# Altium schematic symbol library port.SchLib: 29 symbols
Pins are listed as number, name and electrical type; pins without a type are passive.

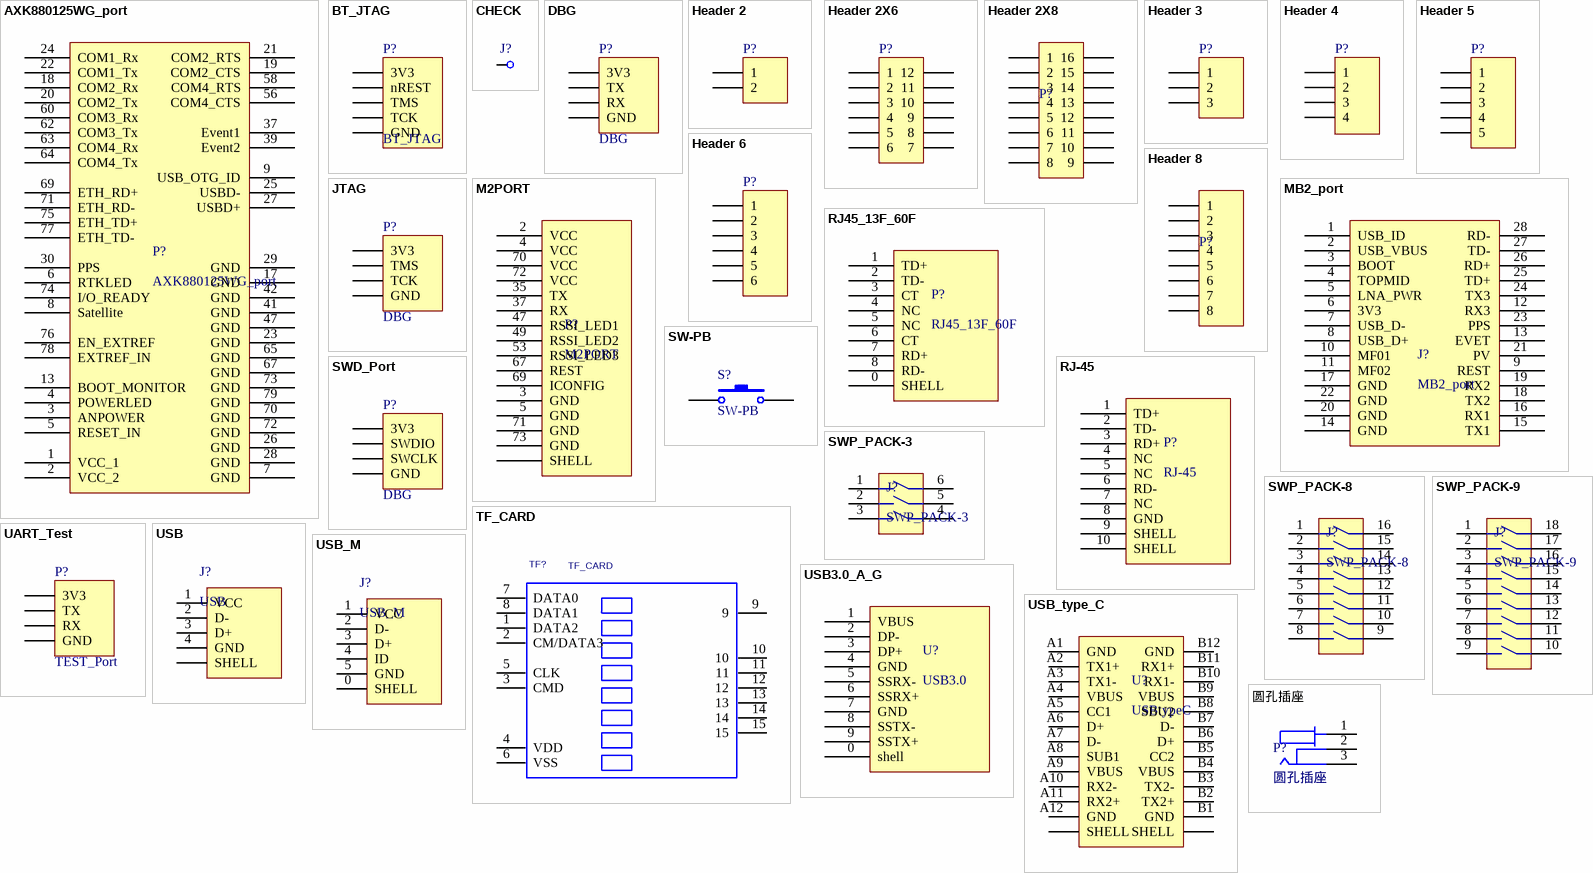
[diagram p0: symbols AXK880125WG_port to 圆孔插座]

## AXK880125WG_port
designator P?
AXK880125WG_接口
pins: 1 VCC_1, 2 VCC_2, 3 ANPOWER, 4 POWERLED, 5 RESET_IN, 6 RTKLED, 7 GND, 8 Satellite, 9 USB_OTG_ID, 13 BOOT_MONITOR, 17 GND, 18 COM2_Rx, 19 COM2_CTS, 20 COM2_Tx, 21 COM2_RTS, 22 COM1_Tx, 23 GND, 24 COM1_Rx, 25 USBD-, 26 GND, 27 USBD+, 28 GND, 29 GND, 30 PPS, 37 Event1, 39 Event2, 41 GND, 42 GND, 47 GND, 56 COM4_CTS, 58 COM4_RTS, 60 COM3_Rx, 62 COM3_Tx, 63 COM4_Rx, 64 COM4_Tx, 65 GND, 67 GND, 69 ETH_RD+, 70 GND, 71 ETH_RD-, 72 GND, 73 GND, 74 I/O_READY, 75 ETH_TD+, 76 EN_EXTREF, 77 ETH_TD-, 78 EXTREF_IN, 79 GND

## BT_JTAG
designator P?
Header, 5-Pin; LatestRevisionDate: 17-Jul-2002; LatestRevisionNote: Re-released for DXP Platform.; Publisher: Altium Limited
footprint header 5
pins: 1 3V3, 2 nREST, 3 TMS, 4 TCK, 5 GND

## CHECK
designator J?  (value not drawn)
测试点
footprint CHECK-B (Connector; Plug)
pins: 1

## DBG
designator P?
Header, 4-Pin; LatestRevisionDate: 17-Jul-2002; LatestRevisionNote: Re-released for DXP Platform.; Publisher: Altium Limited
footprint HDR1X4 (Connector; Header; 4 Position)
pins: 1 3V3, 2 TX, 3 RX, 4 GND

## Header 2
designator P?  (value not drawn)
Header, 2-Pin; LatestRevisionDate: 17-Jul-2002; LatestRevisionNote: Re-released for DXP Platform.; Publisher: Altium Limited
signal-integrity model Connector
footprint HDR1X2 (Connector; Header; 4 Position)
pins: 1, 2

## Header 2X6
designator P?  (value not drawn)
Header, 2X6-Pin; LatestRevisionDate: 17-Jul-2002; LatestRevisionNote: Re-released for DXP Platform.; Publisher: Altium Limited
footprint HDR2x6 (排针单排6针 双列)
pins: 1, 2, 3, 4, 5, 6, 7, 8, 9, 10, 11, 12

## Header 2X8
designator P?  (value not drawn)
Header, 2X8-Pin; LatestRevisionDate: 17-Jul-2002; LatestRevisionNote: Re-released for DXP Platform.; Publisher: Altium Limited
footprint HDR2x8 (排针单排8针 双列)
pins: 1, 2, 3, 4, 5, 6, 7, 8, 9, 10, 11, 12, 13, 14, 15, 16

## Header 3
designator P?  (value not drawn)
Header, 3-Pin; LatestRevisionDate: 17-Jul-2002; LatestRevisionNote: Re-released for DXP Platform.; Publisher: Altium Limited
signal-integrity model Connector
footprint GH1.25-3P
footprint PCB5.08_3P (Connector; Header; 3 Position)
footprint HDR1X3 (Connector; Header; 3 Position)
pins: 1, 2, 3

## Header 4
designator P?  (value not drawn)
Header, 4-Pin; LatestRevisionDate: 17-Jul-2002; LatestRevisionNote: Re-released for DXP Platform.; Publisher: Altium Limited
footprint HDR1X4 (Connector; Header; 4 Position)
pins: 1, 2, 3, 4

## Header 5
designator P?  (value not drawn)
Header, 5-Pin; LatestRevisionDate: 17-Jul-2002; LatestRevisionNote: Re-released for DXP Platform.; Publisher: Altium Limited
footprint HDR1X5
footprint HDR1x5_SMD
pins: 1, 2, 3, 4, 5

## Header 6
designator P?  (value not drawn)
Header, 6-Pin; LatestRevisionDate: 17-Jul-2002; LatestRevisionNote: Re-released for DXP Platform.; Publisher: Altium Limited
footprint HDR1X6
pins: 1, 2, 3, 4, 5, 6

## Header 8
designator P?  (value not drawn)
Header, 8-Pin; LatestRevisionDate: 17-Jul-2002; LatestRevisionNote: Re-released for DXP Platform.; Publisher: Altium Limited
footprint HDR1X8
pins: 1, 2, 3, 4, 5, 6, 7, 8

## JTAG
designator P?, comment DBG
Header, 4-Pin; LatestRevisionDate: 17-Jul-2002; LatestRevisionNote: Re-released for DXP Platform.; Publisher: Altium Limited
footprint HDR1X4 (Connector; Header; 4 Position)
pins: 1 3V3, 2 TMS, 3 TCK, 4 GND

## M2PORT
designator P?
M2/ngff接口
footprint M2/ngff_B_PCB
footprint M.2/NGFF (PICO)
pins: 0 SHELL, 2 VCC, 3 GND, 4 VCC, 5 GND, 35 TX, 37 RX, 47 RSSI_LED1, 49 RSSI_LED2, 53 RSSI_LED3, 67 REST, 69 ICONFIG, 70 VCC, 71 GND, 72 VCC, 73 GND

## MB2_port
designator J?
MB2接口
footprint MB2
pins: 1 USB_ID, 2 USB_VBUS, 3 BOOT, 4 TOPMID, 5 LNA_PWR, 6 3V3, 7 USB_D-, 8 USB_D+, 9 REST, 10 MF01, 11 MF02, 12 RX3, 13 EVET, 14 GND, 15 TX1, 16 RX1, 17 GND, 18 TX2, 19 RX2, 20 GND, 21 PV, 22 GND, 23 PPS, 24 TX3, 25 TD+, 26 RD+, 27 TD-, 28 RD-

## RJ45_13F_60F
designator P?
网络变压器
footprint RJ45_13series (网口母座)
pins: 0 SHELL, 1 TD+, 2 TD-, 3 CT, 4 NC, 5 NC, 6 CT, 7 RD+, 8 RD-

## RJ-45
designator P?
网口
footprint RJ45 (LANSocket)
pins: 1 TD+, 2 TD-, 3 RD+, 4 NC, 5 NC, 6 RD-, 7 NC, 8 GND, 9 SHELL, 10 SHELL

## SW-PB
designator S?
微动开关; Published: 24-Mar-1999; LatestRevisionDate: 17-Jul-2002; LatestRevisionNote: Re-released for DXP Platform.; PackageReference: SPST-2; Publisher: Altium Limited
footprint SW_PB2_A1
pins: 1, 2

## SWD_Port
designator P?, comment DBG
Header, 4-Pin; LatestRevisionDate: 17-Jul-2002; LatestRevisionNote: Re-released for DXP Platform.; Publisher: Altium Limited
footprint HDR1X4 (Connector; Header; 4 Position)
pins: 1 3V3, 2 SWDIO, 3 SWCLK, 4 GND

## SWP_PACK-3
designator J?
拨码开关-3
footprint SWP-PACK3
pins: 1, 2, 3, 4, 5, 6

## SWP_PACK-8
designator J?
拨码开关-8
footprint SWP_PACK8
pins: 1, 2, 3, 4, 5, 6, 7, 8, 9, 10, 11, 12, 13, 14, 15, 16

## SWP_PACK-9
designator J?
拨码开关-9
footprint SWP_PACK9
pins: 1, 2, 3, 4, 5, 6, 7, 8, 9, 10, 11, 12, 13, 14, 15, 16, 17, 18

## TF_CARD
designator TF?
SD卡; Manufacturer #1 PN: MicroSD座/手机卡存储卡座; PCB DECAL: TF_CARD
footprint TF_CARD
pins: 1 DATA2, 2 CM/DATA3, 3 CMD, 4 VDD, 5 CLK, 6 VSS, 7 DATA0, 8 DATA1, 9, 10, 11, 12, 13, 14, 15

## UART_Test
designator P?, comment TEST_Port
Header, 4-Pin; LatestRevisionDate: 17-Jul-2002; LatestRevisionNote: Re-released for DXP Platform.; Publisher: Altium Limited
footprint HDR1X4 (Connector; Header; 4 Position)
pins: 1 3V3, 2 TX, 3 RX, 4 GND

## USB
designator J?
USB接口
footprint USB_B1 (USB方孔)
footprint USB_Mother_A_Li (USB母头A型立式)
footprint USB_G_A (USB2.0公头直插)
pins: 0 SHELL, 1 VCC, 2 D- , 3 D+, 4 GND

## USB3.0_A_G
designator U?, comment USB3.0
USB3.0_A公头
footprint USB3.0_A_G (USB3.0A公头)
pins: 0 shell, 1 VBUS, 2 DP-, 3 DP+, 4 GND, 5 SSRX-, 6 SSRX+, 7 GND, 8 SSTX-, 9 SSTX+

## USB_M
designator J?
MicroUSB接口
footprint USB_MICRO (USB方孔)
pins: 0 SHELL, 1 VCC, 2 D- , 3 D+, 4 ID, 5 GND

## USB_type_C
designator U?, comment USBtypeC
USB_typeC
footprint USBtype-C (USBtypeC母座)
footprint USB_C_typeE_F (USBtypeC母座)
pins: 0 SHELL, 0 SHELL, A1 GND, A2 TX1+, A3 TX1-, A4 VBUS, A5 CC1, A6 D+, A7 D-, A8 SUB1, A9 VBUS, A10 RX2-, A11 RX2+, A12 GND, B1 GND, B2 TX2+, B3 TX2-, B4 VBUS, B5 CC2, B6 D+, B7 D-, B8 SBU2, B9 VBUS, B10 RX1-, B11 RX1+, B12 GND

## 圆孔插座
designator P?
圆孔插座 直径6mm; Value: DC座子贴片
footprint DC-005
footprint 圆孔插座贴片
pins: 1 BAT+, 2 BAT-, 3 BAT-